# EAGLE library part STM32G030F6P6TR (library stm32)
ARM® Cortex®-M0+ series Microcontroller IC 32-Bit 64MHz 32KB (32K x 8) FLASH 20-TSSOP
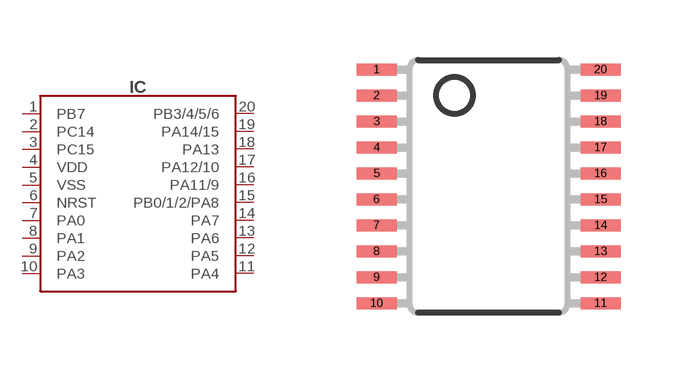
[diagram p5: symbol with the pads of TSSOP20; footprint TSSOP20]

Designator prefix IC

## STM32G030F6P6TR (DIGIKEY#: 497-STM32G030F6P6TR-ND; LCSC#: C529330; MANF: STMicroelectronics; MANF#: STM32G030F6P6TR)  [TSSOP20]
1  PB7
2  PC14
3  PC15
4  VDD
5  VSS
6  NRST
7  PA0
8  PA1
9  PA2
10  PA3
11  PA4
12  PA5
13  PA6
14  PA7
15  PB0/1/2/PA8
16  PA11/9
17  PA12/10
18  PA13
19  PA14/15
20  PB3/4/5/6

## Footprint TSSOP20 (pad centres in mm)
MOLDED TSSOP JEDEC, 5 x 4.4 x 9.9 mm Body 16 LD, 0.65mm Pitch Source: http://www.national.com/packaging/mkt/mtc16.pdf 3D model <https://grabcad.com/library/msop-and-tssop-packages-1>
smd 1 x 0.3: 1 -2.8,2.925; 2 -2.8,2.275; 3 -2.8,1.625; 4 -2.8,0.975; 5 -2.8,0.325; 6 -2.8,-0.325; 7 -2.8,-0.975; 8 -2.8,-1.625; 9 -2.8,-2.275; 10 -2.8,-2.925; 11 2.8,-2.925; 12 2.8,-2.275; 13 2.8,-1.625; 14 2.8,-0.975; 15 2.8,-0.325; 16 2.8,0.325; 17 2.8,0.975; 18 2.8,1.625; 19 2.8,2.275; 20 2.8,2.925